# Altium schematic symbol library Switch_Board.SchLib: 8 symbols
Pins are listed as number, name and electrical type; pins without a type are passive.

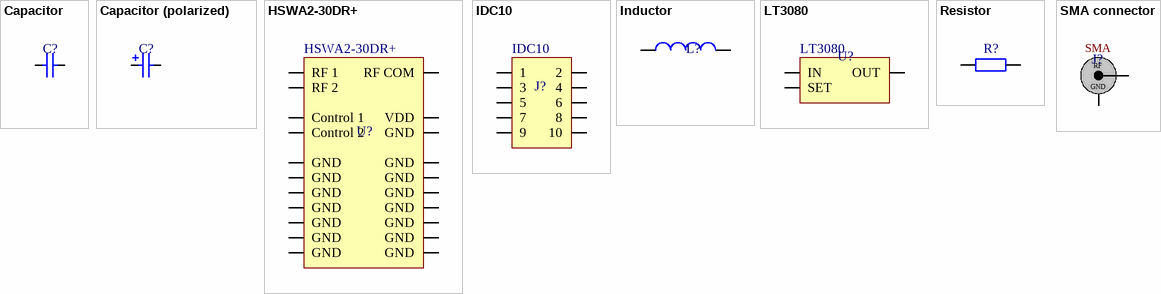
[diagram p0: symbols Capacitor to SMA connector]

## Capacitor
designator C?
General symbol for a surface-mount capacitor
footprint 0603C (Chip capacitor, body 1.6 mm x 0.8 mm, IPC high density)
pins: 1, 2

## Capacitor (polarized)
designator C?
General symbol for a surface-mount polarized capacitor
footprint EIA 3528-21 (Chip capacitor, body 3.50 x 2.80mm, IPC medium density)
pins: 1, 2

## HSWA2-30DR+
designator U?
Mini-Circuits surface-mount RF SPDT switch
footprint DG983-1
pins: 1 GND, 2 GND, 3 RF 1, 4 GND, 5 GND, 6 GND, 7 GND, 8 RF COM, 9 GND, 10 GND, 11 GND, 12 GND, 13 RF 2, 14 GND, 15 GND, 16 Control 2, 17 Control 1, 18 GND, 19 GND, 20 VDD, GND

## IDC10
designator J?
IDC connector, 10 pin
footprint IDC10 (IDC connector, 10 pin, right angle)
pins: 1, 2, 3, 4, 5, 6, 7, 8, 9, 10

## Inductor
designator L?
General symbol for a surface-mount inductor
footprint 0603I (Chip inductor, body 1.6 mm x 0.8 mm, IPC high density)
pins: 1, 2

## LT3080
designator U?  (value not drawn)
Linear Technology surface-mount adjustable voltage regulator; ComponentLink1URL: http://cds.linear.com/docs/en/datasheet/3080fc.pdf; ComponentLink1Description: Datasheet for LT3080
footprint SOT-223 (SOT-223 footprint)
pins: IN, OUT, SET

## Resistor
designator R?
General symbol for a surface-mount resistor
footprint 0805 (Chip resistor, body 2.0 mm x 1.2 mm, IPC medium density)
pins: 1, 2

## SMA connector
designator J?  (value not drawn)
SMA PCB jack
footprint SMA edge connector (SMA 50 ohm PCB edge jack); pin to pad 0>GND 1>RF
pins: 0 GND, 1 RF
text: SMA